# Altium schematic symbol library Schlib1.SchLib: 4 symbols
Pins are listed as number, name and electrical type; pins without a type are passive.

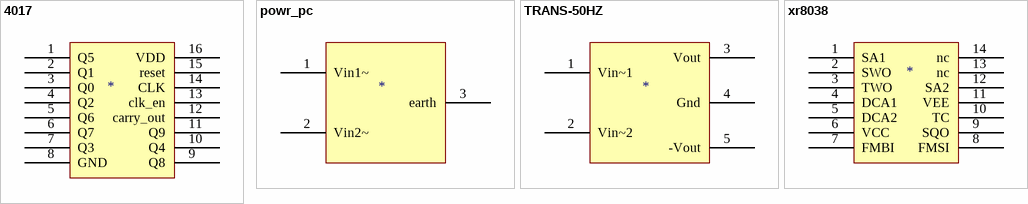
[diagram p0: symbols 4017 to xr8038]

## 4017
designator *  (value not drawn)
footprint DIP16
pins: 1 Q5 (power), 2 Q1 (power), 3 Q0 (power), 4 Q2 (power), 5 Q6 (power), 6 Q7 (power), 7 Q3 (power), 8 GND (power), 9 Q8 (power), 10 Q4 (power), 11 Q9 (power), 12 carry_out (power), 13 clk_en (power), 14 CLK (power), 15 reset (power), 16 VDD (power)

## powr_pc
designator *  (value not drawn)
pins: 1 Vin1~ (power), 2 Vin2~ (power), 3 earth (power)

## TRANS-50HZ
designator *  (value not drawn)
pins: 1 Vin~1 (power), 2 Vin~2 (power), 3 Vout (power), 4 Gnd (power), 5 -Vout (power)

## xr8038
designator *  (value not drawn)
footprint DIP14
pins: 1 SA1 (power), 2 SWO (power), 3 TWO (power), 4 DCA1 (power), 5 DCA2 (power), 6 VCC (power), 7 FMBI (power), 8 FMSI (power), 9 SQO (power), 10 TC (power), 11 VEE (power), 12 SA2 (power), 13 nc (power), 14 nc (power)